# EAGLE library part ZX62M-B-5P(01) (library hirose-zx)
Micro USB Connector HI-SPEED Certified Source: https://www.hirose.co.jp/catalogj_hp/jd_ZX_20140305.pdf
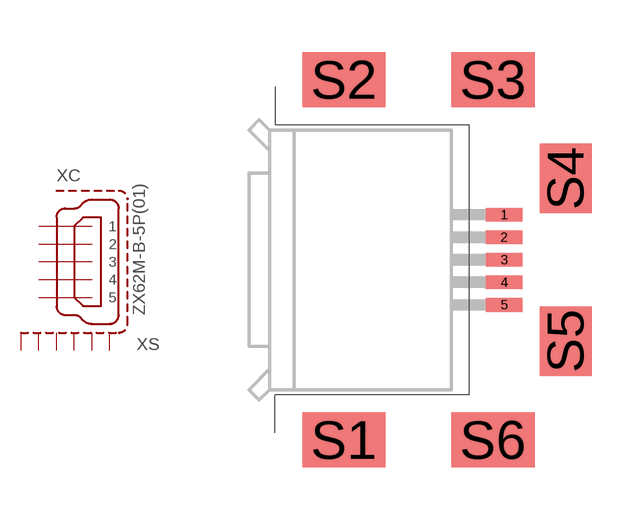
[diagram p4: symbol with the pads of ZX62M-B-5P(01); footprint ZX62M-B-5P(01)]

Designator prefix X; gates C=MICRO-USB S=SHIELD-6

## ZX62M-B-5P(01)  [ZX62M-B-5P(01)]
1  C:1  pwr
2  C:2  out
3  C:3
4  C:4  pas
5  C:5  pwr
S1  S:S1  pas
S2  S:S2  pas
S3  S:S3  pas
S4  S:S4  pas
S5  S:S5  pas
S6  S:S6  pas

## Footprint ZX62M-B-5P(01) (pad centres in mm)
smd 1.05 x 0.4: 1 4.625,1.3; 2 4.625,0.65; 3 4.625,0; 4 4.625,-0.65; 5 4.625,-1.3
smd 2.4 x 1.6: S1 0,-5.2; S2 0,5.2; S3 4.3,5.2; S6 4.3,-5.2
smd 1.5 x 2: S4 6.4,2.35; S5 6.4,-2.35